# EAGLE library part 9728-50 (library impellimax-drivers)
Please contact factory for your specific package and pinout needs. www.impellimax.com 603-886-9569
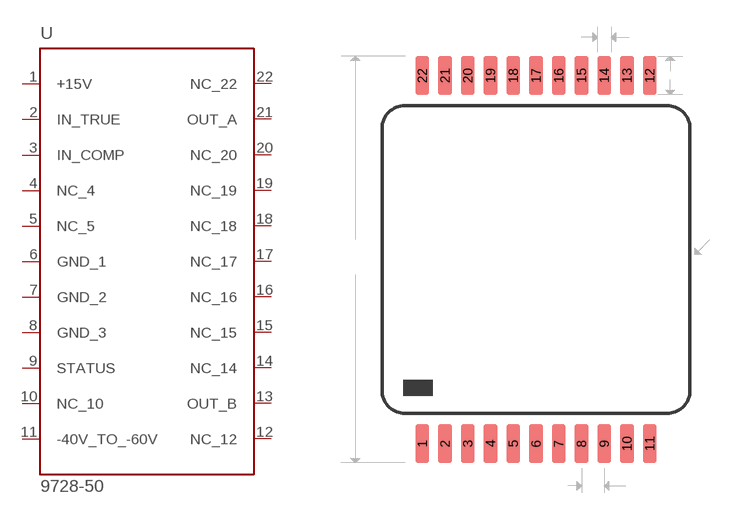
[diagram p13: symbol with the pads of 7408_C130; footprint 7408_C130]

Designator prefix U

## 9728-50  [7408_C130]
1  +15V  in
2  IN_TRUE  in
3  IN_COMP  in
4  NC_4  in
5  NC_5  pas
6  GND_1  in
7  GND_2  in
8  GND_3  in
9  STATUS  in
10  NC_10  in
11  -40V_TO_-60V  pas
12  NC_12  in
13  OUT_B  in
14  NC_14  in
15  NC_15  in
16  NC_16  in
17  NC_17  in
18  NC_18  in
19  NC_19  in
20  NC_20  in
21  OUT_A  in
22  NC_22  in

## Footprint 7408_C130 (pad centres in mm)
package .645 max square actual lead to lead length .865 max not leadformed, seat package in thru-hole lead width .016, land pattern width .030
smd 0.762 x 2.159: 1 -6.351,-10.289; 2 -5.081,-10.285; 3 -3.811,-10.289; 4 -2.541,-10.285; 5 -1.269,-10.287; 6 0.001,-10.29; 7 1.267,-10.287; 8 2.538,-10.29; 9 3.809,-10.287; 10 5.079,-10.289; 11 6.349,-10.285; 12 6.349,10.289; 13 5.079,10.285; 14 3.808,10.285; 15 2.538,10.285; 16 1.268,10.285; 17 0.001,10.285; 18 -1.272,10.285; 19 -2.542,10.285; 20 -3.812,10.285; 21 -5.081,10.289; 22 -6.351,10.285